# Altium footprint library Mylibr.PcbLib: 102 footprints (part 4 of 7)
Each footprint in its own frame and in the unit in brackets; x right, y up, seen from the top. Pads: shape width x height; smd on the part's side, far side on the other; paste and mask are expansions set on the pad; w line width, h text height; cw(c..) or ccw(c..) is an arc to the next point about the centre after c.
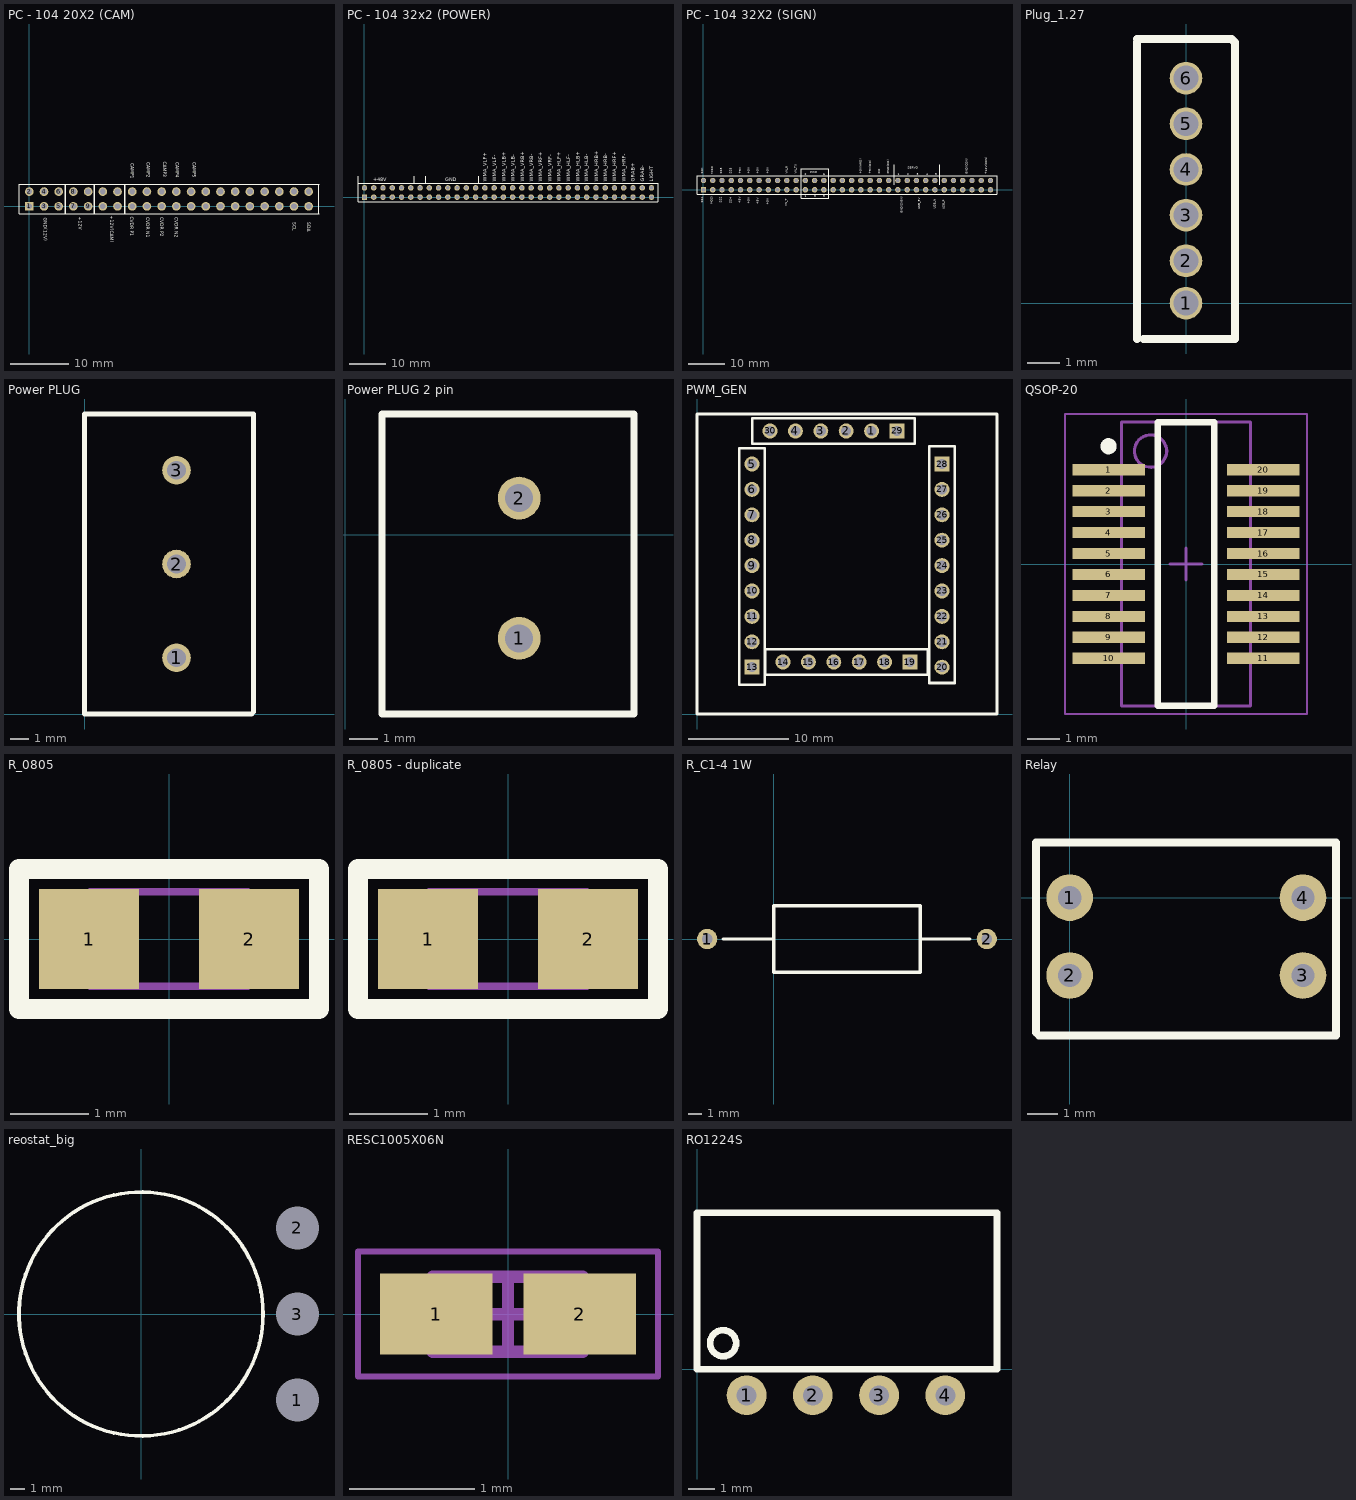
[diagram p3: the footprints below, top view; thin cyan lines are the x and y axes]

## PC - 104 20X2 (CAM) [mm] "Connector; Header; 20x2 Position"
height 11.1
pads (40):
  rect 1.5x1.5 hole 1: 1(0,0)
  round 1.5 hole 1: 2(0,2.54) 3(2.54,0) 4(2.54,2.54) 5(5.08,0) 6(5.08,2.54) 7(7.62,0) 8(7.62,2.54) 9(10.16,0) 10(10.16,2.54) 11(12.7,0) 12(12.7,2.54) 13(15.24,0) 14(15.24,2.54) 15(17.78,0) 16(17.78,2.54) 17(20.32,0) 18(20.32,2.54) 19(22.86,0) 20(22.86,2.54) 21(25.4,0) 22(25.4,2.54) 23(27.94,0) 24(27.94,2.54) 25(30.48,0) 26(30.48,2.54) 27(33.02,0) 28(33.02,2.54) 29(35.56,0) 30(35.56,2.54) 31(38.1,0) 32(38.1,2.54) 33(40.64,0) 34(40.64,2.54) 35(43.18,0) 36(43.18,2.54) 37(45.72,0) 38(45.72,2.54) 39(48.26,0) 40(48.26,2.54)
Top Overlay:
  lines w0.2: -1.78,-1.27 50.04,-1.27 ; -1.78,3.81 50.04,3.81 ; -1.778,-1.27 -1.778,3.81 ; 50.038,-1.27 50.038,3.81
  lines w0.254: 6.25,-1.27 6.25,3.81 ; 11.25,-1.25 11.25,3.75 ; 16.5,-1.27 16.5,3.75
  text "CAMP5" at 27.971,7.596 h1
  text "CAMP4" at 25.038,7.621 h1
  text "CAMP3" at 22.86,7.723 h1
  text "CAMP2" at 20.038,7.586 h1
  text "CAMP1" at 17.288,7.4 h1
  text "+12V(CAM)" at 13.75,-1.64 h1
  text "+12V" at 8.25,-1.767 h1
  text "GND(12V)" at 2.25,-2 h1
  text "SDA" at 47.75,-2.75 h1
  text "SCL" at 45.25,-2.75 h1
  text "CVDR P1" at 17.15,-1.767 h1
  text "CVDR N1" at 19.9,-1.883 h1
  text "CVDR P2" at 22.4,-1.883 h1
  text "CVDR N2" at 24.9,-1.883 h1
Bottom Overlay:
  lines w0.2: -1.78,-1.27 50.04,-1.27 ; -1.78,3.81 50.04,3.81 ; -1.778,-1.27 -1.778,3.81 ; 50.038,-1.27 50.038,3.81
  lines w0.254: 6.25,-1.27 6.25,3.75 ; 11.25,-1.25 11.25,3.75 ; 16.5,-1.27 16.5,3.75 ; -1.78,-1.27 -1.78,3.81 50.038,3.81 50.038,-1.27 -1.78,-1.27
  text "CVDR N2" at 24.763,-5.844 h1
  text "CVDR P2" at 22.263,-5.795 h1
  text "CVDR N1" at 19.763,-5.727 h1
  text "CVDR P1" at 17.013,-5.562 h1
  text "CAMP5" at 27.834,4.468 h1
  text "CAMP4" at 24.9,4.5 h1
  text "+12V(CAM)" at 14,-6.348 h1
  text "+12V" at 8.123,-3.952 h1
  text "GND(12V)" at 1.935,-6.221 h1
  text "SCL" at 45.112,-4.544 h1
  text "SDA" at 47.612,-4.676 h1
  text "CAMP1" at 17.288,4.468 h1
  text "CAMP2" at 19.9,4.468 h1
  text "CAMP3" at 22.722,4.6 h1
3D body: height 11.05, standoff -12.2, extent -1.52,-1.205 49.78,3.745

## PC - 104 32x2 (POWER) [mm]
pads (64):
  rect 1.5x1.5 hole 1: 1(0,0)
  round 1.5 hole 1: 2(0,2.54) 3(2.54,0) 4(2.54,2.54) 5(5.08,0) 6(5.08,2.54) 7(7.62,0) 8(7.62,2.54) 9(10.16,0) 10(10.16,2.54) 11(12.7,0) 12(12.7,2.54) 13(15.24,0) 14(15.24,2.54) 15(17.78,0) 16(17.78,2.54) 17(20.32,0) 18(20.32,2.54) 19(22.86,0) 20(22.86,2.54) 21(25.4,0) 22(25.4,2.54) 23(27.94,0) 24(27.94,2.54) 25(30.48,0) 26(30.48,2.54) 27(33.02,0) 28(33.02,2.54) 29(35.56,0) 30(35.56,2.54) 31(38.1,0) 32(38.1,2.54) 33(40.64,0) 34(40.64,2.54) 35(43.18,0) 36(43.18,2.54) 37(45.72,0) 38(45.72,2.54) 39(48.26,0) 40(48.26,2.54) 41(50.8,0) 42(50.8,2.54) 43(53.34,0) 44(53.34,2.54) 45(55.88,0) 46(55.88,2.54) 47(58.42,0) 48(58.42,2.54) 49(60.96,0) 50(60.96,2.54) 51(63.5,0) 52(63.5,2.54) 53(66.04,0) 54(66.04,2.54) 55(68.58,0) 56(68.58,2.54) 57(71.12,0) 58(71.12,2.54) 59(73.66,0) 60(73.66,2.54) 61(76.2,0) 62(76.2,2.54) 63(78.74,0) 64(78.74,2.54)
Top Overlay:
  lines w0.2: -1.78,-1.27 80.52,-1.27 80.521,3.81 -1.78,3.81 ; -1.778,-1.27 -1.778,3.81
  lines w0.254: -1.78,3.81 -1.78,5.682 ; 13.672,3.81 13.672,5.73 ; 16.872,3.83 16.872,5.73 ; 31.372,3.81 31.372,5.73
  text "LIGHT" at 79.205,4.23 h1
  text "GRAB-" at 76.705,4.23 h1
  text "GRAB+" at 74.205,4.23 h1
  text "WMA_HLB+" at 59.005,4.23 h1
  text "WMA_HLF-" at 56.405,4.23 h1
  text "WMA_HLF+" at 53.905,4.23 h1
  text "WMA_VRF-" at 51.372,4.23 h1
  text "WMA_VRF+" at 48.772,4.23 h1
  text "WMA_VRB-" at 46.272,4.23 h1
  text "WMA_VRB+" at 43.772,4.23 h1
  text "WMA_HLB-" at 61.372,4.23 h1
  text "WMA_HRB+" at 64.072,4.23 h1
  text "WMA_HRB-" at 66.572,4.23 h1
  text "WMA_HRF+" at 69.072,4.23 h1
  text "WMA_HRF-" at 71.672,4.23 h1
  text "WMA_VLB-" at 41.205,4.23 h1
  text "WMA_VLB+" at 38.705,4.23 h1
  text "WMA_VLF-" at 36.105,4.23 h1
  text "WMA_VLF+" at 33.572,4.23 h1
  text "GND" at 22.172,4.33 h1
  text "+48V" at 2.472,4.33 h1
Bottom Overlay:
  lines w0.2: -1.78,-1.27 80.52,-1.27 80.521,3.81 -1.78,3.81 ; -1.778,-1.27 -1.778,3.81
  text "WMA_VLF+" at 33.839,11.994 h1
  text "GND" at 24.938,4.23 h1
  text "+48V" at 6.237,4.23 h1
  text "WMA_VLF-" at 36.372,11.994 h1
  text "WMA_VLB+" at 38.972,11.994 h1
  text "WMA_VLB-" at 41,12.094 h1
  text "WMA_VRB+" at 44.039,11.994 h1
  text "WMA_VRB-" at 46.539,11.994 h1
  text "WMA_VRF+" at 49.039,11.994 h1
  text "WMA_VRF-" at 51,12.405 h1
  text "WMA_HLF+" at 53.75,11.75 h1
  text "WMA_HLF-" at 56.672,11.994 h1
  text "WMA_HLB+" at 59.272,11.994 h1
  text "WMA_HLB-" at 61.639,11.994 h1
  text "WMA_HRB+" at 64.339,11.994 h1
  text "WMA_HRB-" at 66.04,11.75 h1
  text "WMA_HRF+" at 68.54,11.75 h1
  text "WMA_HRF-" at 71.14,11.75 h1
  text "GRAB+" at 73.75,8.829 h1
  text "GRAB-" at 76.805,8.995 h1
  text "LIGHT" at 79.305,8.829 h1
3D body: height 11.05, standoff -12.2, extent -1.52,-1.205 80.26,3.745

## PC - 104 32X2 (SIGN) [mm] "Connector; Header; 32x2 Position 2.54mm"
height 11.1
pads (64):
  rect 1.5x1.5 hole 1: 1(0,0)
  round 1.5 hole 1: 2(0,2.54) 3(2.54,0) 4(2.54,2.54) 5(5.08,0) 6(5.08,2.54) 7(7.62,0) 8(7.62,2.54) 9(10.16,0) 10(10.16,2.54) 11(12.7,0) 12(12.7,2.54) 13(15.24,0) 14(15.24,2.54) 15(17.78,0) 16(17.78,2.54) 17(20.32,0) 18(20.32,2.54) 19(22.86,0) 20(22.86,2.54) 21(25.4,0) 22(25.4,2.54) 23(27.94,0) 24(27.94,2.54) 25(30.48,0) 26(30.48,2.54) 27(33.02,0) 28(33.02,2.54) 29(35.56,0) 30(35.56,2.54) 31(38.1,0) 32(38.1,2.54) 33(40.64,0) 34(40.64,2.54) 35(43.18,0) 36(43.18,2.54) 37(45.72,0) 38(45.72,2.54) 39(48.26,0) 40(48.26,2.54) 41(50.8,0) 42(50.8,2.54) 43(53.34,0) 44(53.34,2.54) 45(55.88,0) 46(55.88,2.54) 47(58.42,0) 48(58.42,2.54) 49(60.96,0) 50(60.96,2.54) 51(63.5,0) 52(63.5,2.54) 53(66.04,0) 54(66.04,2.54) 55(68.58,0) 56(68.58,2.54) 57(71.12,0) 58(71.12,2.54) 59(73.66,0) 60(73.66,2.54) 61(76.2,0) 62(76.2,2.54) 63(78.74,0) 64(78.74,2.54)
Top Layer:
  lines w0.3: 7.62,0 7.62,0.26 ; 25.4,0 25.4,0.26 ; 33.02,0 33.02,0.26 ; 63.5,-0.082 63.5,0
Top Overlay:
  lines w0.2: -1.78,-1.27 80.52,-1.27 80.521,3.81 -1.78,3.81 ; -1.778,-1.27 -1.778,3.81
  lines w0.254: 52.372,1.31 52.372,6.81 ; 64.872,1.31 64.872,6.81 ; 26.872,-2.39 34.372,-2.39 34.372,5.81 26.872,5.81 26.872,-2.39
  text "SCK" at 0.25,4.41 h1
  text "MISO" at 2.888,4.31 h1
  text "SS3" at 5.388,4.41 h1
  text "SS5" at 8,4.41 h1
  text "SS1" at 0.25,-3.5 h1
  text "MOSI" at 2.75,-4 h1
  text "SS2" at 5.25,-3.627 h1
  text "SS4" at 8,-3.754 h1
  text "+5V" at 10.672,4.41 h1
  text "+5V" at 13,4.41 h1
  text "+5V" at 15.5,4.41 h1
  text "+5V" at 18.172,4.41 h1
  text "+5V" at 10.5,-3.754 h1
  text "+5V" at 13,-3.881 h1
  text "+5V" at 15.5,-4 h1
  text "+5V" at 18.172,-4.127 h1
  text "VN_R" at 23.372,4.41 h1
  text "VN_T" at 23.25,-4.5 h1
  text "VN_TX" at 25.872,4.41 h1
  text "PWR" at 29.272,4.31 h1
  text "+5V(ARD)" at 43.672,4.41 h1
  text "+5V(DO)" at 46.272,4.41 h1
  text "2" at 27.772,4.01 h0.6
  text "6" at 32.872,4.01 h0.6
  text "1" at 27.772,-2.09 h0.6
  text "3" at 30.372,-2.09 h0.6
  text "5" at 32.872,-2.09 h0.6
  text "DO" at 48.772,4.41 h1
  text "GND(DO)" at 51.272,4.41 h1
  text "SERVO" at 55.972,5.51 h1
  text "1" at 53.272,4.01 h0.6
  text "2" at 55.872,4.01 h0.6
  text "3" at 58.472,4.01 h0.6
  text "4" at 61.072,4.01 h0.6
  text "5" at 63.572,4.01 h0.6
  text "GND(CON)" at 72.772,4.31 h1
  text "+12V(CON)" at 78.072,4.31 h1
  text "USB_P" at 66.5,-5.377 h1
  text "USB_N" at 64,-5.25 h1
  text "USB_5V" at 59.75,-5.377 h1
  text "GND(SIGN)" at 55,-6.39 h1
Bottom Overlay:
  lines w0.2: -1.78,-1.27 80.52,-1.27 80.521,3.81 -1.78,3.81 ; -1.778,-1.27 -1.778,3.81
  text "5" at 63.572,4.01 h0.6
  text "4" at 61.572,3.91 h0.6
  text "3" at 58.972,3.91 h0.6
  text "2" at 56.372,3.91 h0.6
  text "1" at 53.272,4.01 h0.6
  text "6" at 33.372,3.91 h0.6
  text "2" at 27.772,4.01 h0.6
  text "PWR" at 31,4.5 h1
  text "+12V(CON)" at 77.93,8.25 h1
  text "GND(CON)" at 72.63,8.25 h1
  text "USB_P" at 66.25,-2.237 h1
  text "USB_N" at 63.75,-2.11 h1
  text "USB_5V" at 59.5,-2.237 h1
  text "GND(SIGN)" at 54.75,-2.19 h1
  text "VN_T" at 23.388,-2.887 h1
  text "+5V" at 18.31,-2.514 h1
  text "+5V" at 15.638,-2.387 h1
  text "+5V" at 13.138,-2.268 h1
  text "+5V" at 10.638,-2.141 h1
  text "SS4" at 8.138,-2.141 h1
  text "SS2" at 5.388,-2.014 h1
  text "MOSI" at 2.888,-2.387 h1
  text "SS1" at 0.388,-1.887 h1
  text "SCK" at 0.388,6.334 h1
  text "MISO" at 3.025,6.234 h1
  text "SS3" at 5.525,6.334 h1
  text "SS5" at 8.138,6.334 h1
  text "+5V" at 10.81,6.334 h1
  text "+5V" at 13.138,6.334 h1
  text "+5V" at 15.638,6.334 h1
  text "+5V" at 18.31,6.334 h1
  text "VN_R" at 23.51,6.334 h1
  text "VN_TX" at 26.01,6.334 h1
  text "+5V(ARD)" at 43.53,8.35 h1
  text "+5V(DO)" at 46.13,8.35 h1
  text "DO" at 48.91,5.769 h1
  text "GND(DO)" at 51.13,8.35 h1
  text "SERVO" at 59.15,5.372 h1
  text "1" at 28.072,-2.19 h0.6
  text "3" at 30.872,-2.19 h0.6
  text "5" at 33.372,-2.19 h0.6
3D body: height 11.05, standoff -12.2, extent -1.52,-1.205 80.26,3.745

## Plug_1.27 [mm]
pads (6):
  round 1 hole 0.762: 1(0,0) 2(0,1.3) 3(0,2.7) 4(0,4.1) 5(0,5.5) 6(0,6.9)
Top Overlay:
  lines w0.254: -1.5,-1.1 -1.5,8 ; -1.5,8.1 1.4,8.1 1.5,8 1.5,-1.1 -1.3,-1.1

## Power PLUG [mm]
pads (3):
  round 1.524 hole 1: 1(4.9,3) 2(4.9,8) 3(4.9,13)
Top Overlay:
  lines w0.254: 0,0 0,16 9,16 9,0.1 8.9,0 0,0

## Power PLUG 2 pin [mm]
pads (2):
  round 1.524 hole 1: 1(6.2,-3.7) 2(6.2,1.3)
Top Overlay:
  lines w0.254: 1.3,-6.4 10.3,-6.4 10.3,4.3 1.3,4.3 1.3,-6.4

## PWM_GEN [mm]
pads (30):
  round 1.5 hole 1: 1(17.46,28.3) 2(14.92,28.3) 3(12.38,28.3) 4(9.84,28.3) 5(5.5,25) 6(5.5,22.46) 7(5.5,19.92) 8(5.5,17.38) 9(5.5,14.84) 10(5.5,12.3) 11(5.5,9.76) 12(5.5,7.22) 14(8.6,5.2) 15(11.14,5.2) 16(13.68,5.2) 17(16.22,5.2) 18(18.76,5.2) 20(24.5,4.68) 21(24.5,7.22) 22(24.5,9.76) 23(24.5,12.3) 24(24.5,14.84) 25(24.5,17.38) 26(24.5,19.92) 27(24.5,22.46) 30(7.3,28.3)
  rect 1.5x1.5 hole 1: 13(5.5,4.68) 19(21.3,5.2) 28(24.5,25) 29(20,28.3)
Top Overlay:
  lines w0.2: 12.55,6.45 17.45,6.45
  lines w0.254: 25.77,26.778 23.232,26.778 23.23,26.776 23.23,3.1 25.77,3.1 25.77,26.78 ; 0,0 30,0 30,30 0,30 0,0 ; 4.23,2.902 4.23,26.58 6.77,26.58 6.77,2.904 6.768,2.902 4.23,2.902 ; 5.522,27.03 5.522,29.57 21.78,29.57 21.78,27.03 5.522,27.03 ; 6.822,3.93 23.08,3.93 23.08,6.47 6.822,6.47 6.822,3.93
Bottom Overlay:
  lines w0.2: 4.23,2.902 6.77,2.902 ; 4.23,26.58 6.77,26.58 6.77,2.9 ; 21.778,27.03 21.778,29.57 ; 21.78,27.03 5.522,27.03 5.522,29.57 21.78,29.57 ; 23.078,3.93 23.078,6.47 ; 23.08,3.93 6.822,3.93 6.822,6.47 23.08,6.47 ; 23.23,26.778 25.77,26.778 ; 23.23,26.78 23.23,3.1 25.77,3.1 25.77,26.78
  lines w0.254: 4.23,2.902 4.23,26.58

## QSOP-20 [mm]
height 1.75
pads (20):
  rect 2.25x0.35 smd: 1(-2.4,2.925) 2(-2.4,2.275) 3(-2.4,1.625) 4(-2.4,0.975) 5(-2.4,0.325) 6(-2.4,-0.325) 7(-2.4,-0.975) 8(-2.4,-1.625) 9(-2.4,-2.275) 10(-2.4,-2.925) 11(2.4,-2.925) 12(2.4,-2.275) 13(2.4,-1.625) 14(2.4,-0.975) 15(2.4,-0.325) 16(2.4,0.325) 17(2.4,0.975) 18(2.4,1.625) 19(2.4,2.275) 20(2.4,2.925)
Top Overlay:
  circle w0.25: c-2.4,3.65 r0.125
  lines w0.2: -0.875,-4.4 0.875,-4.4 0.875,4.4 -0.875,4.4 -0.875,-4.4
Mechanical 13:
  circle w0.1: c-1.1,3.5 r0.5
  lines w0.1: -2,-4.4 2,-4.4 2,4.4 -2,4.4 -2,-4.4
Mechanical 15:
  lines w0.05: -3.75,-4.65 3.75,-4.65 3.75,4.65 -3.75,4.65 -3.75,-4.65
  lines w0.1: -0.5,0 0.5,0 ; 0,-0.5 0,0.5
3D body: height 1.75, standoff 0.25, extent -2,-4.4 2,4.4

## R_0805 [mil]
pads (2):
  rect 50x50 smd: 1(-40,0) 2(40,0)
Top Overlay:
  lines w10: -75,-35 75,-35 75,35 -75,35 -75,-35
Mechanical 13:
  lines w3.94: -39.37,-23.62 -39.37,23.62 39.37,23.62 39.37,-23.62 -39.37,-23.62
  text ".Designator" at -39.37,62.99 h98.43
3D body: height 19.68, standoff 0, extent -39.37,-23.62 39.37,23.63

## R_0805 - duplicate [mil]
pads (2):
  rect 50x50 smd: 1(-40,0) 2(40,0)
Top Overlay:
  lines w10: -75,-35 -75,35 75,35 75,-35 -75,-35
Mechanical 13:
  lines w3.94: -39.37,-23.62 39.37,-23.62 39.37,23.62 -39.37,23.62 -39.37,-23.62
  text ".Designator" at -39.37,62.99 h98.43
3D body: height 19.68, standoff 0, extent -39.37,-23.62 39.37,23.63

## R_C1-4 1W [mm]
height 5
pads (2):
  round 1.524 hole 0.8: 1(-5,0) 2(16,0)
Top Overlay:
  lines w0.254: -3.81,0 0,0 ; 11,0 14.732,0 ; 0,0 0,-2.5 11,-2.5 11,2.5 0,2.5 0,0

## Relay [mil]
pads (4):
  round 60 hole 30: 1(0,0) 2(0,-100) 3(300,-100) 4(300,0)
Top Overlay:
  lines w10: -43.31,-173.23 -43.31,70.87 342.52,70.87 342.52,-177.17 -39.37,-177.17

## reostat_big [mm]
pads (3):
  rect 1.524x1.524 hole 3 square: 1(10.9,-6) 2(10.9,6) 3(10.9,0)
Top Overlay:
  circle w0.254: c0,0 r8.5

## RESC0908X09N [mm] "Chip Resistor, 2-Leads, Body 0,85x0,80mm, IPC Medium Density"
height 0.9

## RESC1005X06N [mm] "Chip Resistor, 2-Leads, Body 1,00x0,50mm, IPC Medium Density"
height 0.55
pads (2):
  rect 0.9x0.65 smd: 1(-0.575,0) 2(0.575,0)
Mechanical 13:
  lines w0.1: -0.6,-0.3 0.6,-0.3 0.6,0.3 -0.6,0.3 -0.6,-0.3
Mechanical 15:
  lines w0.05: -1.2,-0.5 1.2,-0.5 1.2,0.5 -1.2,0.5 -1.2,-0.5
  lines w0.1: -0.3,0 0.3,0 ; 0,-0.3 0,0.3
3D body: height 0.55, standoff 0, extent 0.4,-0.3 0.6,0.3
3D body: height 0.55, standoff 0, extent -0.6,-0.3 -0.4,0.3
3D body: height 0.55, standoff 0, extent -0.4,-0.3 0.4,0.3

## RO1224S [mil]
pads (4):
  round 60 hole 30: 1(74.8,-39.37) 2(174.8,-39.37) 3(274.8,-39.37) 4(374.8,-39.37)
Top Overlay:
  circle w10: c39.37,39.37 r19.69
  lines w10: 0,0 0,236.22 452.76,236.22 452.76,0 0,0